# Altium footprint library SOT223.PcbLib: 1 footprints
Each footprint in its own frame and in the unit in brackets; x right, y up, seen from the top. Pads: shape width x height; smd on the part's side, far side on the other; paste and mask are expansions set on the pad; w line width, h text height; cw(c..) or ccw(c..) is an arc to the next point about the centre after c.
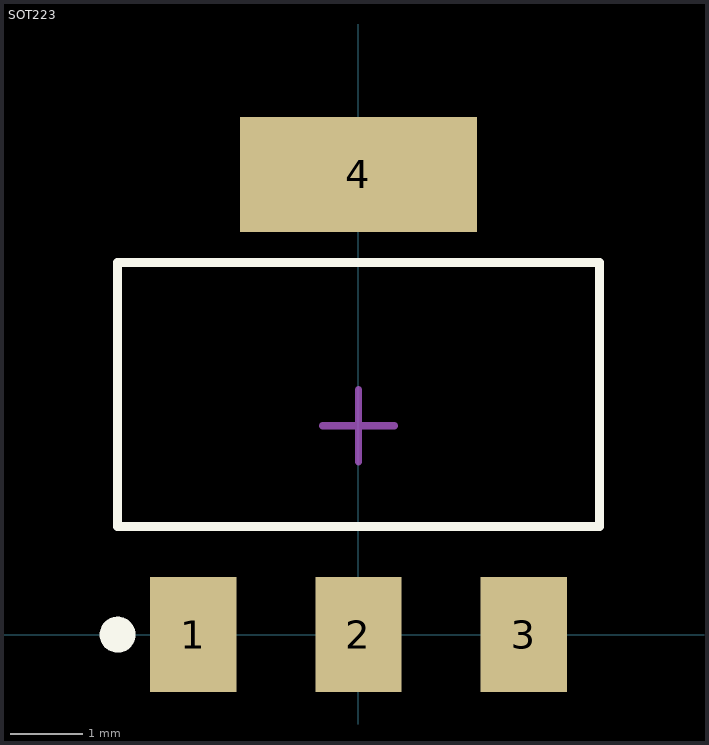
[diagram p0: the footprint, top view; thin cyan lines are the x and y axes]

## SOT223 [mm] "SOT223"
pads (4):
  rect 1.2x1.6 smd: 1(-2.3,0) 2(0,0) 3(2.3,0)
  rect 3.3x1.6 smd: 4(0,6.4)
Top Overlay:
  circle w0.25: c-3.35,0 r0.125
  lines w0.127: -3.35,1.503 3.35,1.503 3.35,5.176 -3.35,5.176 -3.35,1.503 ; -3.35,1.503 -3.35,1.503
Mechanical 15:
  lines w0.1: -0.5,2.905 0.5,2.905 ; 0,2.405 0,3.405
3D body "SOT223.step": height 1.62, standoff -0.03, extent -3.251,-0.282 3.249,6.718